# EAGLE library part PIRT1280A1-12 (library PIRT1280A1-12)
Footprint for the Princeton PIRT1280A1-12 SWIR Sensor
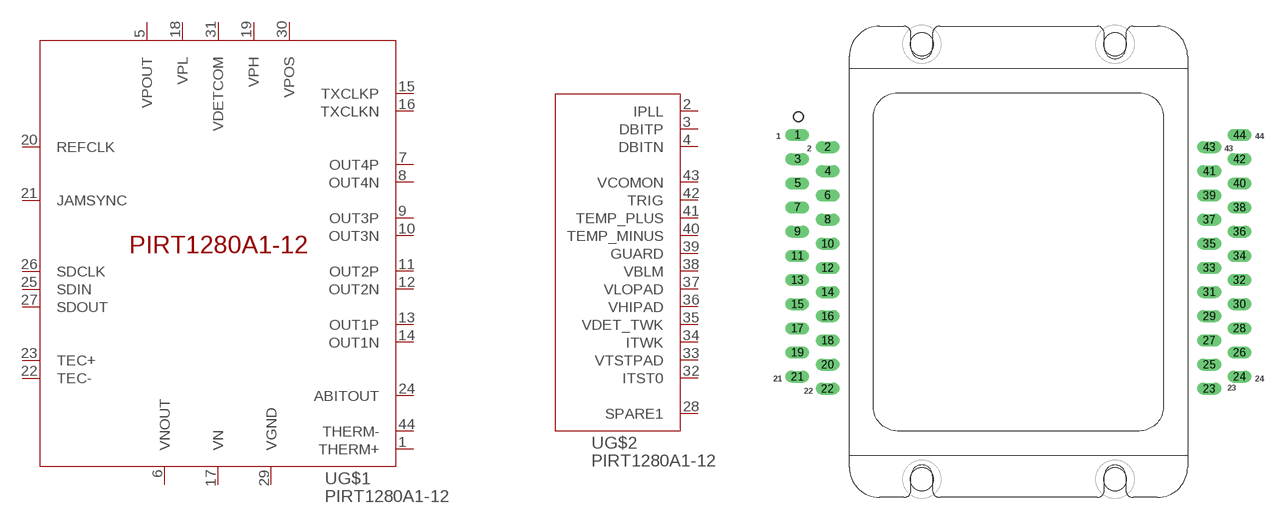
[diagram p0: symbol with the pads of PIRT1280A1-12; footprint PIRT1280A1-12]

Designator prefix U; gates G$1=PIRT1280A1-12 G$2=PIRT1280A1-12-NC

## PIRT1280A1-12  [PIRT1280A1-12]
1  G$1:THERM+  pas
2  G$2:IPLL  nc
3  G$2:DBITP  nc
4  G$2:DBITN  nc
5  G$1:VPOUT  pwr
6  G$1:VNOUT  pwr
7  G$1:OUT4P  out
8  G$1:OUT4N  out
9  G$1:OUT3P  out
10  G$1:OUT3N  out
11  G$1:OUT2P  out
12  G$1:OUT2N  out
13  G$1:OUT1P  out
14  G$1:OUT1N  out
15  G$1:TXCLKP  out
16  G$1:TXCLKN  out
17  G$1:VN  pwr
18  G$1:VPL  pwr
19  G$1:VPH  pwr
20  G$1:REFCLK  in
21  G$1:JAMSYNC  in
22  G$1:TEC-  pas
23  G$1:TEC+  pas
24  G$1:ABITOUT  out
25  G$1:SDIN  in
26  G$1:SDCLK  in
27  G$1:SDOUT  out
28  G$2:SPARE1  nc
29  G$1:VGND  pwr
30  G$1:VPOS  pwr
31  G$1:VDETCOM  pwr
32  G$2:ITST0  nc
33  G$2:VTSTPAD  nc
34  G$2:ITWK  nc
35  G$2:VDET_TWK  nc
36  G$2:VHIPAD  nc
37  G$2:VLOPAD  nc
38  G$2:VBLM  nc
39  G$2:GUARD  nc
40  G$2:TEMP_MINUS  nc
41  G$2:TEMP_PLUS  nc
42  G$2:TRIG  nc
43  G$2:VCOMON  nc
44  G$1:THERM-  pas

## Footprint PIRT1280A1-12 (pad centres in mm)
drill 0.762 long: 1 -23.241,13.335; 2 -20.066,12.065; 3 -23.241,10.795; 4 -20.066,9.525; 5 -23.241,8.255; 6 -20.066,6.985; 7 -23.241,5.715; 8 -20.066,4.445; 9 -23.241,3.175; 10 -20.066,1.905; 11 -23.241,0.635; 12 -20.066,-0.635; 13 -23.241,-1.905; 14 -20.066,-3.175; 15 -23.241,-4.445; 16 -20.066,-5.715; 17 -23.241,-6.985; 18 -20.066,-8.255; 19 -23.241,-9.525; 20 -20.066,-10.795; 21 -23.241,-12.065; 22 -20.066,-13.335; 23 20.066,-13.335; 24 23.241,-12.065; 25 20.066,-10.795; 26 23.241,-9.525; 27 20.066,-8.255; 28 23.241,-6.985; 29 20.066,-5.715; 30 23.241,-4.445; 31 20.066,-3.175; 32 23.241,-1.905; 33 20.066,-0.635; 34 23.241,0.635; 35 20.066,1.905; 36 23.241,3.175; 37 20.066,4.445; 38 23.241,5.715; 39 20.066,6.985; 40 23.241,8.255; 41 20.066,9.525; 42 23.241,10.795; 43 20.066,12.065; 44 23.241,13.335
hole 2.4 at -10.16,22.86
hole 2.4 at 10.16,22.86
hole 2.4 at 10.16,-22.86
hole 2.4 at -10.16,-22.86